# EAGLE library part FH12-22S-0.5SH (library ds_con)
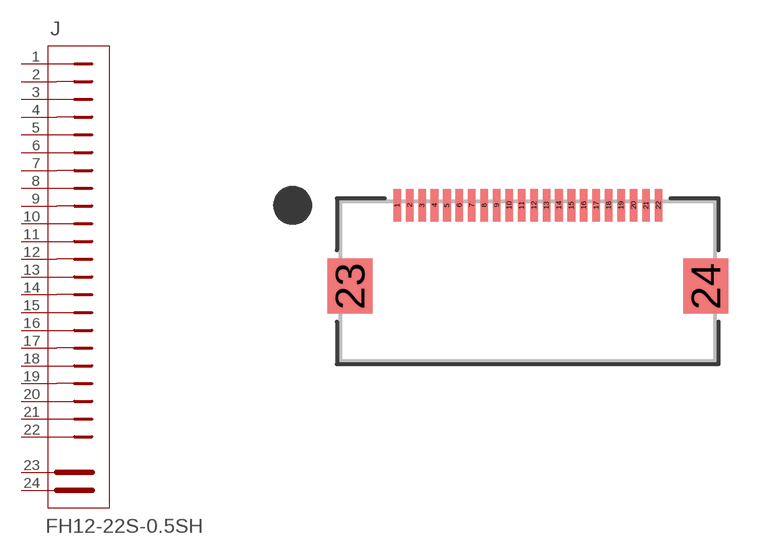
[diagram p2: symbol with the pads of FH12-22S-0.5SVA; footprint FH12-22S-0.5SVA]

Designator prefix J

## FH12-22S-0.5SH (COPYRIGHT: Copyright (C) 2025 Ultra Librarian. All rights reserved.; MANUFACTURER_PART_NUMBER: FH12-22S-0.5SH(55); MFR_NAME: Hirose)  [FH12-22S-0.5SVA]
1  1  pas
2  2  pas
3  3  pas
4  4  pas
5  5  pas
6  6  pas
7  7  pas
8  8  pas
9  9  pas
10  10  pas
11  11  pas
12  12  pas
13  13  pas
14  14  pas
15  15  pas
16  16  pas
17  17  pas
18  18  pas
19  19  pas
20  20  pas
21  21  pas
22  22  pas
23  MH1  pas
24  MH2  pas

## Footprint FH12-22S-0.5SVA (pad centres in mm)
smd 0.305 x 1.295: 1 -5.25,3.05; 2 -4.75,3.05; 3 -4.25,3.05; 4 -3.75,3.05; 5 -3.25,3.05; 6 -2.75,3.05; 7 -2.25,3.05; 8 -1.75,3.05; 9 -1.25,3.05; 10 -0.75,3.05; 11 -0.25,3.05; 12 0.25,3.05; 13 0.75,3.05; 14 1.25,3.05; 15 1.75,3.05; 16 2.25,3.05; 17 2.75,3.05; 18 3.25,3.05; 19 3.75,3.05; 20 4.25,3.05; 21 4.75,3.05; 22 5.25,3.05
smd 1.803 x 2.21: 23 -7.15,-0.2; 24 7.15,-0.2